# Altium integrated library Capacitor - Aluminium TH.IntLib: 4591 symbols (part 63 of 68)
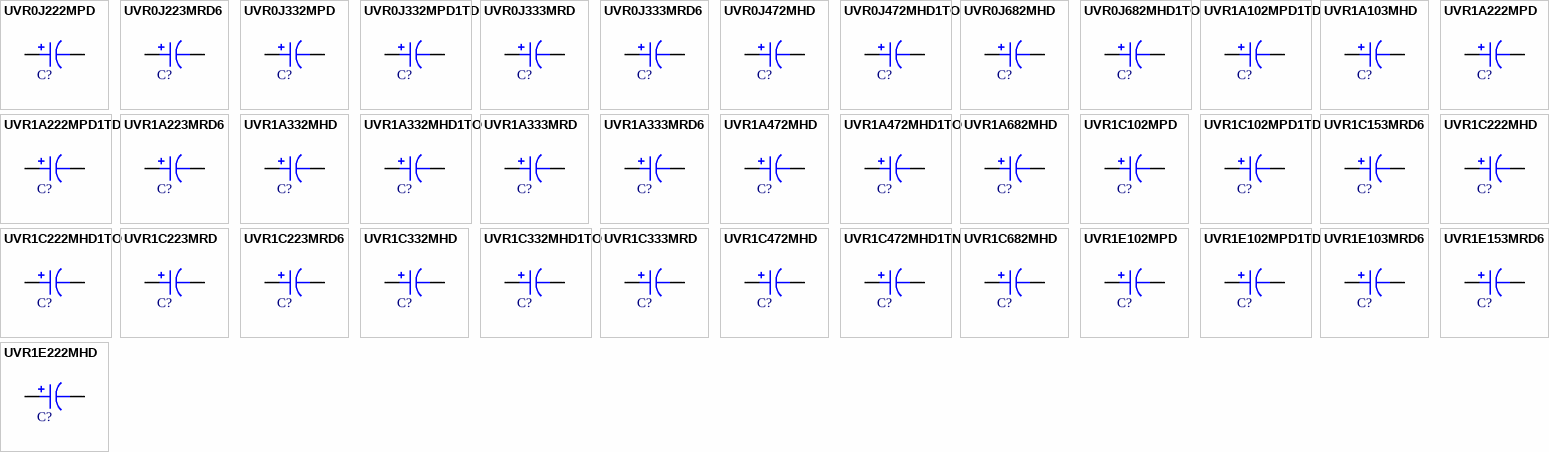
[diagram p176: symbols UVR0J222MPD to UVR1E222MHD]

## UVR0J223MRD6
designator C?, comment 22000uF  (value not drawn)
CAP ALUM 22000UF 20% 6.3V RADIAL; Part Number: UVR0J223MRD6; Manufacturer: Nichicon; TemperatureRange: -40C ~ 85C; Type: Polar; Ripple Current: 3.2A; Value: 22000uF; PartId: 27573; Supplier 1: Digi-Key; Supplier Part Number 1: 493-1015-ND; ComponentLink1Description: Datasheet; ComponentLink1URL: http://nichicon-us.com/english/products/pdfs/e-uvr.pdf; ComponentLink2Description: Digi-Key Listing; ComponentLink2URL: https://www.digikey.com/product-detail/en/nichicon/UVR0J223MRD6/493-1015-ND/588756; Tolerance: 20%; Voltage: 6.3V; Price: 2.33; Device Package: Radial, Can, 22mm
footprint CAP AL TH D22 L10 H33
pins: 1, 2

## UVR0J332MPD
designator C?, comment 3300uF  (value not drawn)
CAP ALUM 3300UF 20% 6.3V RADIAL; Part Number: UVR0J332MPD; Manufacturer: Nichicon; TemperatureRange: -40C ~ 85C; Type: Polar; Ripple Current: 1.19A; Value: 3300uF; PartId: 25840; Supplier 1: Digi-Key; Supplier Part Number 1: 493-1009-ND; ComponentLink1Description: Datasheet; ComponentLink1URL: http://nichicon-us.com/english/products/pdfs/e-uvr.pdf; ComponentLink2Description: Digi-Key Listing; ComponentLink2URL: https://www.digikey.com/product-detail/en/nichicon/UVR0J332MPD/493-1009-ND/588750; Tolerance: 20%; Voltage: 6.3V; Price: 0.49; Device Package: Radial, Can, 10mm
footprint CAP AL TH D10 L5 H22
pins: 1, 2

## UVR0J332MPD1TD
designator C?, comment 3300uF  (value not drawn)
CAP ALUM 3300UF 20% 6.3V RADIAL; Part Number: UVR0J332MPD1TD; Manufacturer: Nichicon; TemperatureRange: -40C ~ 85C; Type: Polar; Ripple Current: 1.19A; Value: 3300uF; PartId: 25729; Supplier 1: Digi-Key; Supplier Part Number 1: 493-12746-3-ND; ComponentLink1Description: Datasheet; ComponentLink1URL: http://nichicon-us.com/english/products/pdfs/e-uvr.pdf; ComponentLink2Description: Digi-Key Listing; ComponentLink2URL: https://www.digikey.com/product-detail/en/nichicon/UVR0J332MPD1TD/493-12746-3-ND/4328947; Tolerance: 20%; Voltage: 6.3V; Price: 0.1698; Device Package: Radial, Can, 10mm
footprint CAP AL TH D10 L5 H22
pins: 1, 2

## UVR0J333MRD
designator C?, comment 33000uF  (value not drawn)
CAP ALUM 33000UF 20% 6.3V RADIAL; Part Number: UVR0J333MRD; Manufacturer: Nichicon; TemperatureRange: -40C ~ 85C; Type: Polar; Ripple Current: 3.9A; Value: 33000uF; PartId: 27664; Supplier 1: Digi-Key; Supplier Part Number 1: 493-1016-ND; ComponentLink1Description: Datasheet; ComponentLink1URL: http://nichicon-us.com/english/products/pdfs/e-uvr.pdf; ComponentLink2Description: Digi-Key Listing; ComponentLink2URL: https://www.digikey.com/product-detail/en/nichicon/UVR0J333MRD/493-1016-ND/588757; Tolerance: 20%; Voltage: 6.3V; Price: 3.36; Device Package: Radial, Can, 22mm
footprint CAP AL TH D22 L10 H53
pins: 1, 2

## UVR0J333MRD6
designator C?, comment 33000uF  (value not drawn)
CAP ALUM 33000UF 20% 6.3V RADIAL; Part Number: UVR0J333MRD6; Manufacturer: Nichicon; TemperatureRange: -40C ~ 85C; Type: Polar; Ripple Current: 3.8A; Value: 33000uF; PartId: 27495; Supplier 1: Digi-Key; Supplier Part Number 1: 493-1017-ND; ComponentLink1Description: Datasheet; ComponentLink1URL: http://nichicon-us.com/english/products/pdfs/e-uvr.pdf; ComponentLink2Description: Digi-Key Listing; ComponentLink2URL: https://www.digikey.com/product-detail/en/nichicon/UVR0J333MRD6/493-1017-ND/588758; Tolerance: 20%; Voltage: 6.3V; Price: 3.1; Device Package: Radial, Can, 25mm
footprint CAP AL TH D25 L12.5 H42
pins: 1, 2

## UVR0J472MHD
designator C?, comment 4700uF  (value not drawn)
CAP ALUM 4700UF 20% 6.3V RADIAL; Part Number: UVR0J472MHD; Manufacturer: Nichicon; TemperatureRange: -40C ~ 85C; Type: Polar; Ripple Current: 1.55A; Value: 4700uF; PartId: 23217; Supplier 1: Digi-Key; Supplier Part Number 1: 493-1010-ND; ComponentLink1Description: Datasheet; ComponentLink1URL: http://nichicon-us.com/english/products/pdfs/e-uvr.pdf; ComponentLink2Description: Digi-Key Listing; ComponentLink2URL: https://www.digikey.com/product-detail/en/nichicon/UVR0J472MHD/493-1010-ND/588751; Tolerance: 20%; Voltage: 6.3V; Price: 0.64; Device Package: Radial, Can, 12.5mm
footprint CAP AL TH D12.5 L5 H22
pins: 1, 2

## UVR0J472MHD1TO
designator C?, comment 4700uF  (value not drawn)
CAP ALUM 4700UF 20% 6.3V RADIAL; Part Number: UVR0J472MHD1TO; Manufacturer: Nichicon; TemperatureRange: -40C ~ 85C; Type: Polar; Ripple Current: 1.55A; Value: 4700uF; PartId: 23139; Supplier 1: Digi-Key; Supplier Part Number 1: 493-5900-3-ND; ComponentLink1Description: Datasheet; ComponentLink1URL: http://nichicon-us.com/english/products/pdfs/e-uvr.pdf; ComponentLink2Description: Digi-Key Listing; ComponentLink2URL: https://www.digikey.com/product-detail/en/nichicon/UVR0J472MHD1TO/493-5900-3-ND/3438533; Tolerance: 20%; Voltage: 6.3V; Price: 0.2578; Device Package: Radial, Can, 12.5mm
footprint CAP AL TH D12.5 L5 H22
pins: 1, 2

## UVR0J682MHD
designator C?, comment 6800uF  (value not drawn)
CAP ALUM 6800UF 20% 6.3V RADIAL; Part Number: UVR0J682MHD; Manufacturer: Nichicon; TemperatureRange: -40C ~ 85C; Type: Polar; Ripple Current: 1.92A; Value: 6800uF; PartId: 23963; Supplier 1: Digi-Key; Supplier Part Number 1: 493-1011-ND; ComponentLink1Description: Datasheet; ComponentLink1URL: http://nichicon-us.com/english/products/pdfs/e-uvr.pdf; ComponentLink2Description: Digi-Key Listing; ComponentLink2URL: https://www.digikey.com/product-detail/en/nichicon/UVR0J682MHD/493-1011-ND/588752; Tolerance: 20%; Voltage: 6.3V; Price: 0.99; Device Package: Radial, Can, 12.5mm
footprint CAP AL TH D12.5 L5 H27
pins: 1, 2

## UVR0J682MHD1TO
designator C?, comment 6800uF  (value not drawn)
CAP ALUM 6800UF 20% 6.3V RADIAL; Part Number: UVR0J682MHD1TO; Manufacturer: Nichicon; TemperatureRange: -40C ~ 85C; Type: Polar; Ripple Current: 1.92A; Value: 6800uF; PartId: 24036; Supplier 1: Digi-Key; Supplier Part Number 1: 493-12749-1-ND; ComponentLink1Description: Datasheet; ComponentLink1URL: http://nichicon-us.com/english/products/pdfs/e-uvr.pdf; ComponentLink2Description: Digi-Key Listing; ComponentLink2URL: https://www.digikey.com/product-detail/en/nichicon/UVR0J682MHD1TO/493-12749-1-ND/4328388; Tolerance: 20%; Voltage: 6.3V; Price: 1.11; Device Package: Radial, Can, 12.5mm
footprint CAP AL TH D12.5 L5 H27
pins: 1, 2

## UVR1A102MPD1TD
designator C?, comment 1000uF  (value not drawn)
CAP ALUM 1000UF 20% 10V RADIAL; Part Number: UVR1A102MPD1TD; Manufacturer: Nichicon; TemperatureRange: -40C ~ 85C; Type: Polar; Ripple Current: 650mA; Value: 1000uF; PartId: 24515; Supplier 1: Digi-Key; Supplier Part Number 1: 493-5903-3-ND; ComponentLink1Description: Datasheet; ComponentLink1URL: http://nichicon-us.com/english/products/pdfs/e-uvr.pdf; ComponentLink2Description: Digi-Key Listing; ComponentLink2URL: https://www.digikey.com/product-detail/en/nichicon/UVR1A102MPD1TD/493-5903-3-ND/3438536; Tolerance: 20%; Voltage: 10V; Price: 0.1293; Device Package: Radial, Can, 10mm
footprint CAP AL TH D10 L5 H14.5
pins: 1, 2

## UVR1A103MHD
designator C?, comment 10000uF  (value not drawn)
CAP ALUM 10000UF 20% 10V RADIAL; Part Number: UVR1A103MHD; Manufacturer: Nichicon; TemperatureRange: -40C ~ 85C; Type: Polar; Ripple Current: 2.7A; Value: 10000uF; PartId: 27351; Supplier 1: Digi-Key; Supplier Part Number 1: 493-1030-ND; ComponentLink1Description: Datasheet; ComponentLink1URL: http://nichicon-us.com/english/products/pdfs/e-uvr.pdf; ComponentLink2Description: Digi-Key Listing; ComponentLink2URL: https://www.digikey.com/product-detail/en/nichicon/UVR1A103MHD/493-1030-ND/588771; Tolerance: 20%; Voltage: 10V; Price: 1.72; Device Package: Radial, Can, 16mm
footprint CAP AL TH D16 L7.5 H37
pins: 1, 2

## UVR1A222MPD
designator C?, comment 2200uF  (value not drawn)
CAP ALUM 2200UF 20% 10V RADIAL; Part Number: UVR1A222MPD; Manufacturer: Nichicon; TemperatureRange: -40C ~ 85C; Type: Polar; Ripple Current: 1.1A; Value: 2200uF; PartId: 25853; Supplier 1: Digi-Key; Supplier Part Number 1: 493-1026-ND; ComponentLink1Description: Datasheet; ComponentLink1URL: http://nichicon-us.com/english/products/pdfs/e-uvr.pdf; ComponentLink2Description: Digi-Key Listing; ComponentLink2URL: https://www.digikey.com/product-detail/en/nichicon/UVR1A222MPD/493-1026-ND/588767; Tolerance: 20%; Voltage: 10V; Price: 0.56; Device Package: Radial, Can, 10mm
footprint CAP AL TH D10 L5 H22
pins: 1, 2

## UVR1A222MPD1TD
designator C?, comment 2200uF  (value not drawn)
CAP ALUM 2200UF 20% 10V RADIAL; Part Number: UVR1A222MPD1TD; Manufacturer: Nichicon; TemperatureRange: -40C ~ 85C; Type: Polar; Ripple Current: 1.1A; Value: 2200uF; PartId: 25739; Supplier 1: Digi-Key; Supplier Part Number 1: 493-12754-3-ND; ComponentLink1Description: Datasheet; ComponentLink1URL: http://nichicon-us.com/english/products/pdfs/e-uvr.pdf; ComponentLink2Description: Digi-Key Listing; ComponentLink2URL: https://www.digikey.com/product-detail/en/nichicon/UVR1A222MPD1TD/493-12754-3-ND/4328955; Tolerance: 20%; Voltage: 10V; Price: 0.1922; Device Package: Radial, Can, 10mm
footprint CAP AL TH D10 L5 H22
pins: 1, 2

## UVR1A223MRD6
designator C?, comment 22000uF  (value not drawn)
CAP ALUM 22000UF 20% 10V RADIAL; Part Number: UVR1A223MRD6; Manufacturer: Nichicon; TemperatureRange: -40C ~ 85C; Type: Polar; Ripple Current: 3.3A; Value: 22000uF; PartId: 27477; Supplier 1: Digi-Key; Supplier Part Number 1: 493-1033-ND; ComponentLink1Description: Datasheet; ComponentLink1URL: http://nichicon-us.com/english/products/pdfs/e-uvr.pdf; ComponentLink2Description: Digi-Key Listing; ComponentLink2URL: https://www.digikey.com/product-detail/en/nichicon/UVR1A223MRD6/493-1033-ND/588774; Tolerance: 20%; Voltage: 10V; Price: 3.12; Device Package: Radial, Can, 25mm
footprint CAP AL TH D25 L12.5 H32
pins: 1, 2

## UVR1A332MHD
designator C?, comment 3300uF  (value not drawn)
CAP ALUM 3300UF 20% 10V RADIAL; Part Number: UVR1A332MHD; Manufacturer: Nichicon; TemperatureRange: -40C ~ 85C; Type: Polar; Ripple Current: 1.45A; Value: 3300uF; PartId: 23225; Supplier 1: Digi-Key; Supplier Part Number 1: 493-1027-ND; ComponentLink1Description: Datasheet; ComponentLink1URL: http://nichicon-us.com/english/products/pdfs/e-uvr.pdf; ComponentLink2Description: Digi-Key Listing; ComponentLink2URL: https://www.digikey.com/product-detail/en/nichicon/UVR1A332MHD/493-1027-ND/588768; Tolerance: 20%; Voltage: 10V; Price: 0.65; Device Package: Radial, Can, 12.5mm
footprint CAP AL TH D12.5 L5 H22
pins: 1, 2

## UVR1A332MHD1TO
designator C?, comment 3300uF  (value not drawn)
CAP ALUM 3300UF 20% 10V RADIAL; Part Number: UVR1A332MHD1TO; Manufacturer: Nichicon; TemperatureRange: -40C ~ 85C; Type: Polar; Ripple Current: 1.45A; Value: 3300uF; PartId: 23261; Supplier 1: Digi-Key; Supplier Part Number 1: 493-12757-1-ND; ComponentLink1Description: Datasheet; ComponentLink1URL: http://nichicon-us.com/english/products/pdfs/e-uvr.pdf; ComponentLink2Description: Digi-Key Listing; ComponentLink2URL: https://www.digikey.com/product-detail/en/nichicon/UVR1A332MHD1TO/493-12757-1-ND/4328406; Tolerance: 20%; Voltage: 10V; Price: 0.73; Device Package: Radial, Can, 12.5mm
footprint CAP AL TH D12.5 L5 H22
pins: 1, 2

## UVR1A333MRD
designator C?, comment 33000uF  (value not drawn)
CAP ALUM 33000UF 20% 10V RADIAL; Part Number: UVR1A333MRD; Manufacturer: Nichicon; TemperatureRange: -40C ~ 85C; Type: Polar; Ripple Current: 4.5A; Value: 33000uF; PartId: 27646; Supplier 1: Digi-Key; Supplier Part Number 1: 493-1034-ND; ComponentLink1Description: Datasheet; ComponentLink1URL: http://nichicon-us.com/english/products/pdfs/e-uvr.pdf; ComponentLink2Description: Digi-Key Listing; ComponentLink2URL: https://www.digikey.com/product-detail/en/nichicon/UVR1A333MRD/493-1034-ND/588775; Tolerance: 20%; Voltage: 10V; Price: 4.19; Device Package: Radial, Can, 22mm
footprint CAP AL TH D22 L10 H53
pins: 1, 2

## UVR1A333MRD6
designator C?, comment 33000uF  (value not drawn)
CAP ALUM 33000UF 20% 10V RADIAL; Part Number: UVR1A333MRD6; Manufacturer: Nichicon; TemperatureRange: -40C ~ 85C; Type: Polar; Ripple Current: 4.8A; Value: 33000uF; PartId: 27488; Supplier 1: Digi-Key; Supplier Part Number 1: 493-1035-ND; ComponentLink1Description: Datasheet; ComponentLink1URL: http://nichicon-us.com/english/products/pdfs/e-uvr.pdf; ComponentLink2Description: Digi-Key Listing; ComponentLink2URL: https://www.digikey.com/product-detail/en/nichicon/UVR1A333MRD6/493-1035-ND/588776; Tolerance: 20%; Voltage: 10V; Price: 4.19; Device Package: Radial, Can, 25mm
footprint CAP AL TH D25 L12.5 H42
pins: 1, 2

## UVR1A472MHD
designator C?, comment 4700uF  (value not drawn)
CAP ALUM 4700UF 20% 10V RADIAL; Part Number: UVR1A472MHD; Manufacturer: Nichicon; TemperatureRange: -40C ~ 85C; Type: Polar; Ripple Current: 1.8A; Value: 4700uF; PartId: 23954; Supplier 1: Digi-Key; Supplier Part Number 1: 493-1028-ND; ComponentLink1Description: Datasheet; ComponentLink1URL: http://nichicon-us.com/english/products/pdfs/e-uvr.pdf; ComponentLink2Description: Digi-Key Listing; ComponentLink2URL: https://www.digikey.com/product-detail/en/nichicon/UVR1A472MHD/493-1028-ND/588769; Tolerance: 20%; Voltage: 10V; Price: 0.98; Device Package: Radial, Can, 12.5mm
footprint CAP AL TH D12.5 L5 H27
pins: 1, 2

## UVR1A472MHD1TO
designator C?, comment 4700uF  (value not drawn)
CAP ALUM 4700UF 20% 10V RADIAL; Part Number: UVR1A472MHD1TO; Manufacturer: Nichicon; TemperatureRange: -40C ~ 85C; Type: Polar; Ripple Current: 1.8A; Value: 4700uF; PartId: 23949; Supplier 1: Digi-Key; Supplier Part Number 1: 493-12761-1-ND; ComponentLink1Description: Datasheet; ComponentLink1URL: http://nichicon-us.com/english/products/pdfs/e-uvr.pdf; ComponentLink2Description: Digi-Key Listing; ComponentLink2URL: https://www.digikey.com/product-detail/en/nichicon/UVR1A472MHD1TO/493-12761-1-ND/4328397; Tolerance: 20%; Voltage: 10V; Price: 0.97; Device Package: Radial, Can, 12.5mm
footprint CAP AL TH D12.5 L5 H27
pins: 1, 2

## UVR1A682MHD
designator C?, comment 6800uF  (value not drawn)
CAP ALUM 6800UF 20% 10V RADIAL; Part Number: UVR1A682MHD; Manufacturer: Nichicon; TemperatureRange: -40C ~ 85C; Type: Polar; Ripple Current: 2.25A; Value: 6800uF; PartId: 26815; Supplier 1: Digi-Key; Supplier Part Number 1: 493-1029-ND; ComponentLink1Description: Datasheet; ComponentLink1URL: http://nichicon-us.com/english/products/pdfs/e-uvr.pdf; ComponentLink2Description: Digi-Key Listing; ComponentLink2URL: https://www.digikey.com/product-detail/en/nichicon/UVR1A682MHD/493-1029-ND/588770; Tolerance: 20%; Voltage: 10V; Price: 0.96; Device Package: Radial, Can, 16mm
footprint CAP AL TH D16 L7.5 H27
pins: 1, 2

## UVR1C102MPD
designator C?, comment 1000uF  (value not drawn)
CAP ALUM 1000UF 20% 16V RADIAL; Part Number: UVR1C102MPD; Manufacturer: Nichicon; TemperatureRange: -40C ~ 85C; Type: Polar; Ripple Current: 790mA; Value: 1000uF; PartId: 25187; Supplier 1: Digi-Key; Supplier Part Number 1: 493-1044-ND; ComponentLink1Description: Datasheet; ComponentLink1URL: http://nichicon-us.com/english/products/pdfs/e-uvr.pdf; ComponentLink2Description: Digi-Key Listing; ComponentLink2URL: https://www.digikey.com/product-detail/en/nichicon/UVR1C102MPD/493-1044-ND/588785; Tolerance: 20%; Voltage: 16V; Price: 0.48; Device Package: Radial, Can, 10mm
footprint CAP AL TH D10 L5 H17.5
pins: 1, 2

## UVR1C102MPD1TD
designator C?, comment 1000uF  (value not drawn)
CAP ALUM 1000UF 20% 16V RADIAL; Part Number: UVR1C102MPD1TD; Manufacturer: Nichicon; TemperatureRange: -40C ~ 85C; Type: Polar; Ripple Current: 790mA; Value: 1000uF; PartId: 25005; Supplier 1: Digi-Key; Supplier Part Number 1: 493-5907-3-ND; ComponentLink1Description: Datasheet; ComponentLink1URL: http://nichicon-us.com/english/products/pdfs/e-uvr.pdf; ComponentLink2Description: Digi-Key Listing; ComponentLink2URL: https://www.digikey.com/product-detail/en/nichicon/UVR1C102MPD1TD/493-5907-3-ND/3438540; Tolerance: 20%; Voltage: 16V; Price: 0.1509; Device Package: Radial, Can, 10mm
footprint CAP AL TH D10 L5 H17.5
pins: 1, 2

## UVR1C153MRD6
designator C?, comment 15000uF  (value not drawn)
CAP ALUM 15000UF 20% 16V RADIAL; Part Number: UVR1C153MRD6; Manufacturer: Nichicon; TemperatureRange: -40C ~ 85C; Type: Polar; Ripple Current: 3.3A; Value: 15000uF; PartId: 27479; Supplier 1: Digi-Key; Supplier Part Number 1: 493-1052-ND; ComponentLink1Description: Datasheet; ComponentLink1URL: http://nichicon-us.com/english/products/pdfs/e-uvr.pdf; ComponentLink2Description: Digi-Key Listing; ComponentLink2URL: https://www.digikey.com/product-detail/en/nichicon/UVR1C153MRD6/493-1052-ND/588793; Tolerance: 20%; Voltage: 16V; Price: 3.37; Device Package: Radial, Can, 25mm
footprint CAP AL TH D25 L12.5 H32
pins: 1, 2

## UVR1C222MHD
designator C?, comment 2200uF  (value not drawn)
CAP ALUM 2200UF 20% 16V RADIAL; Part Number: UVR1C222MHD; Manufacturer: Nichicon; TemperatureRange: -40C ~ 85C; Type: Polar; Ripple Current: 1.3A; Value: 2200uF; PartId: 23235; Supplier 1: Digi-Key; Supplier Part Number 1: 493-1045-ND; ComponentLink1Description: Datasheet; ComponentLink1URL: http://nichicon-us.com/english/products/pdfs/e-uvr.pdf; ComponentLink2Description: Digi-Key Listing; ComponentLink2URL: https://www.digikey.com/product-detail/en/nichicon/UVR1C222MHD/493-1045-ND/588786; Tolerance: 20%; Voltage: 16V; Price: 0.68; Device Package: Radial, Can, 12.5mm
footprint CAP AL TH D12.5 L5 H22
pins: 1, 2

## UVR1C222MHD1TO
designator C?, comment 2200uF  (value not drawn)
CAP ALUM 2200UF 20% 16V RADIAL; Part Number: UVR1C222MHD1TO; Manufacturer: Nichicon; TemperatureRange: -40C ~ 85C; Type: Polar; Ripple Current: 1.3A; Value: 2200uF; PartId: 23127; Supplier 1: Digi-Key; Supplier Part Number 1: 493-5909-3-ND; ComponentLink1Description: Datasheet; ComponentLink1URL: http://nichicon-us.com/english/products/pdfs/e-uvr.pdf; ComponentLink2Description: Digi-Key Listing; ComponentLink2URL: https://www.digikey.com/product-detail/en/nichicon/UVR1C222MHD1TO/493-5909-3-ND/3438542; Tolerance: 20%; Voltage: 16V; Price: 0.2362; Device Package: Radial, Can, 12.5mm
footprint CAP AL TH D12.5 L5 H22
pins: 1, 2

## UVR1C223MRD
designator C?, comment 22000uF  (value not drawn)
CAP ALUM 22000UF 20% 16V RADIAL; Part Number: UVR1C223MRD; Manufacturer: Nichicon; TemperatureRange: -40C ~ 85C; Type: Polar; Ripple Current: 4.2A; Value: 22000uF; PartId: 27618; Supplier 1: Digi-Key; Supplier Part Number 1: 493-1053-ND; ComponentLink1Description: Datasheet; ComponentLink1URL: http://nichicon-us.com/english/products/pdfs/e-uvr.pdf; ComponentLink2Description: Digi-Key Listing; ComponentLink2URL: https://www.digikey.com/product-detail/en/nichicon/UVR1C223MRD/493-1053-ND/588794; Tolerance: 20%; Voltage: 16V; Price: 3.51; Device Package: Radial, Can, 22mm
footprint CAP AL TH D22 L10 H53
pins: 1, 2

## UVR1C223MRD6
designator C?, comment 22000uF  (value not drawn)
CAP ALUM 22000UF 20% 16V RADIAL; Part Number: UVR1C223MRD6; Manufacturer: Nichicon; TemperatureRange: -40C ~ 85C; Type: Polar; Ripple Current: 4A; Value: 22000uF; PartId: 27491; Supplier 1: Digi-Key; Supplier Part Number 1: 493-1054-ND; ComponentLink1Description: Datasheet; ComponentLink1URL: http://nichicon-us.com/english/products/pdfs/e-uvr.pdf; ComponentLink2Description: Digi-Key Listing; ComponentLink2URL: https://www.digikey.com/product-detail/en/nichicon/UVR1C223MRD6/493-1054-ND/588795; Tolerance: 20%; Voltage: 16V; Price: 4.22; Device Package: Radial, Can, 25mm
footprint CAP AL TH D25 L12.5 H42
pins: 1, 2

## UVR1C332MHD
designator C?, comment 3300uF  (value not drawn)
CAP ALUM 3300UF 20% 16V RADIAL; Part Number: UVR1C332MHD; Manufacturer: Nichicon; TemperatureRange: -40C ~ 85C; Type: Polar; Ripple Current: 1.7A; Value: 3300uF; PartId: 24039; Supplier 1: Digi-Key; Supplier Part Number 1: 493-1046-ND; ComponentLink1Description: Datasheet; ComponentLink1URL: http://nichicon-us.com/english/products/pdfs/e-uvr.pdf; ComponentLink2Description: Digi-Key Listing; ComponentLink2URL: https://www.digikey.com/product-detail/en/nichicon/UVR1C332MHD/493-1046-ND/588787; Tolerance: 20%; Voltage: 16V; Price: 1.12; Device Package: Radial, Can, 12.5mm
footprint CAP AL TH D12.5 L5 H27
pins: 1, 2

## UVR1C332MHD1TO
designator C?, comment 3300uF  (value not drawn)
CAP ALUM 3300UF 20% 16V RADIAL; Part Number: UVR1C332MHD1TO; Manufacturer: Nichicon; TemperatureRange: -40C ~ 85C; Type: Polar; Ripple Current: 1.7A; Value: 3300uF; PartId: 23840; Supplier 1: Digi-Key; Supplier Part Number 1: 493-12769-3-ND; ComponentLink1Description: Datasheet; ComponentLink1URL: http://nichicon-us.com/english/products/pdfs/e-uvr.pdf; ComponentLink2Description: Digi-Key Listing; ComponentLink2URL: https://www.digikey.com/product-detail/en/nichicon/UVR1C332MHD1TO/493-12769-3-ND/4328969; Tolerance: 20%; Voltage: 16V; Price: 0.5027; Device Package: Radial, Can, 12.5mm
footprint CAP AL TH D12.5 L5 H27
pins: 1, 2

## UVR1C333MRD
designator C?, comment 33000uF  (value not drawn)
CAP ALUM 33000UF 20% 16V RADIAL; Part Number: UVR1C333MRD; Manufacturer: Nichicon; TemperatureRange: -40C ~ 85C; Type: Polar; Ripple Current: 4.8A; Value: 33000uF; PartId: 27541; Supplier 1: Digi-Key; Supplier Part Number 1: 493-1055-ND; ComponentLink1Description: Datasheet; ComponentLink1URL: http://nichicon-us.com/english/products/pdfs/e-uvr.pdf; ComponentLink2Description: Digi-Key Listing; ComponentLink2URL: https://www.digikey.com/product-detail/en/nichicon/UVR1C333MRD/493-1055-ND/588796; Tolerance: 20%; Voltage: 16V; Price: 3.84; Device Package: Radial, Can, 25mm
footprint CAP AL TH D25 L12.5 H52
pins: 1, 2

## UVR1C472MHD
designator C?, comment 4700uF  (value not drawn)
CAP ALUM 4700UF 20% 16V RADIAL; Part Number: UVR1C472MHD; Manufacturer: Nichicon; TemperatureRange: -40C ~ 85C; Type: Polar; Ripple Current: 2.1A; Value: 4700uF; PartId: 26846; Supplier 1: Digi-Key; Supplier Part Number 1: 493-1047-ND; ComponentLink1Description: Datasheet; ComponentLink1URL: http://nichicon-us.com/english/products/pdfs/e-uvr.pdf; ComponentLink2Description: Digi-Key Listing; ComponentLink2URL: https://www.digikey.com/product-detail/en/nichicon/UVR1C472MHD/493-1047-ND/588788; Tolerance: 20%; Voltage: 16V; Price: 1.04; Device Package: Radial, Can, 16mm
footprint CAP AL TH D16 L7.5 H27
pins: 1, 2

## UVR1C472MHD1TN
designator C?, comment 4700uF  (value not drawn)
CAP ALUM 4700UF 20% 16V RADIAL; Part Number: UVR1C472MHD1TN; Manufacturer: Nichicon; TemperatureRange: -40C ~ 85C; Type: Polar; Ripple Current: 2.1A; Value: 4700uF; PartId: 26745; Supplier 1: Digi-Key; Supplier Part Number 1: 493-12771-3-ND; ComponentLink1Description: Datasheet; ComponentLink1URL: http://nichicon-us.com/english/products/pdfs/e-uvr.pdf; ComponentLink2Description: Digi-Key Listing; ComponentLink2URL: https://www.digikey.com/product-detail/en/nichicon/UVR1C472MHD1TN/493-12771-3-ND/4328971; Tolerance: 20%; Voltage: 16V; Price: 0.51; Device Package: Radial, Can, 16mm
footprint CAP AL TH D16 L7.5 H27
pins: 1, 2

## UVR1C682MHD
designator C?, comment 6800uF  (value not drawn)
CAP ALUM 6800UF 20% 16V RADIAL; Part Number: UVR1C682MHD; Manufacturer: Nichicon; TemperatureRange: -40C ~ 85C; Type: Polar; Ripple Current: 2.65A; Value: 6800uF; PartId: 27314; Supplier 1: Digi-Key; Supplier Part Number 1: 493-1048-ND; ComponentLink1Description: Datasheet; ComponentLink1URL: http://nichicon-us.com/english/products/pdfs/e-uvr.pdf; ComponentLink2Description: Digi-Key Listing; ComponentLink2URL: https://www.digikey.com/product-detail/en/nichicon/UVR1C682MHD/493-1048-ND/588789; Tolerance: 20%; Voltage: 16V; Price: 1.41; Device Package: Radial, Can, 16mm
footprint CAP AL TH D16 L7.5 H37
pins: 1, 2

## UVR1E102MPD
designator C?, comment 1000uF  (value not drawn)
CAP ALUM 1000UF 20% 25V RADIAL; Part Number: UVR1E102MPD; Manufacturer: Nichicon; TemperatureRange: -40C ~ 85C; Type: Polar; Ripple Current: 960mA; Value: 1000uF; PartId: 25836; Supplier 1: Digi-Key; Supplier Part Number 1: 493-1065-ND; ComponentLink1Description: Datasheet; ComponentLink1URL: http://nichicon-us.com/english/products/pdfs/e-uvr.pdf; ComponentLink2Description: Digi-Key Listing; ComponentLink2URL: https://www.digikey.com/product-detail/en/nichicon/UVR1E102MPD/493-1065-ND/588806; Tolerance: 20%; Voltage: 25V; Price: 0.44; Device Package: Radial, Can, 10mm
footprint CAP AL TH D10 L5 H22
pins: 1, 2

## UVR1E102MPD1TD
designator C?, comment 1000uF  (value not drawn)
CAP ALUM 1000UF 20% 25V RADIAL; Part Number: UVR1E102MPD1TD; Manufacturer: Nichicon; TemperatureRange: -40C ~ 85C; Type: Polar; Ripple Current: 960mA; Value: 1000uF; PartId: 25727; Supplier 1: Digi-Key; Supplier Part Number 1: 493-5913-3-ND; ComponentLink1Description: Datasheet; ComponentLink1URL: http://nichicon-us.com/english/products/pdfs/e-uvr.pdf; ComponentLink2Description: Digi-Key Listing; ComponentLink2URL: https://www.digikey.com/product-detail/en/nichicon/UVR1E102MPD1TD/493-5913-3-ND/3438546; Tolerance: 20%; Voltage: 25V; Price: 0.1534; Device Package: Radial, Can, 10mm
footprint CAP AL TH D10 L5 H22
pins: 1, 2

## UVR1E103MRD6
designator C?, comment 10000uF  (value not drawn)
CAP ALUM 10000UF 20% 25V RADIAL; Part Number: UVR1E103MRD6; Manufacturer: Nichicon; TemperatureRange: -40C ~ 85C; Type: Polar; Ripple Current: 2.9A; Value: 10000uF; PartId: 27474; Supplier 1: Digi-Key; Supplier Part Number 1: 493-1072-ND; ComponentLink1Description: Datasheet; ComponentLink1URL: http://nichicon-us.com/english/products/pdfs/e-uvr.pdf; ComponentLink2Description: Digi-Key Listing; ComponentLink2URL: https://www.digikey.com/product-detail/en/nichicon/UVR1E103MRD6/493-1072-ND/588813; Tolerance: 20%; Voltage: 25V; Price: 3.4; Device Package: Radial, Can, 25mm
footprint CAP AL TH D25 L12.5 H32
pins: 1, 2

## UVR1E153MRD6
designator C?, comment 15000uF  (value not drawn)
CAP ALUM 15000UF 20% 25V RADIAL; Part Number: UVR1E153MRD6; Manufacturer: Nichicon; TemperatureRange: -40C ~ 85C; Type: Polar; Ripple Current: 3.6A; Value: 15000uF; PartId: 27487; Supplier 1: Digi-Key; Supplier Part Number 1: 493-1074-ND; ComponentLink1Description: Datasheet; ComponentLink1URL: http://nichicon-us.com/english/products/pdfs/e-uvr.pdf; ComponentLink2Description: Digi-Key Listing; ComponentLink2URL: https://www.digikey.com/product-detail/en/nichicon/UVR1E153MRD6/493-1074-ND/588815; Tolerance: 20%; Voltage: 25V; Price: 3.38; Device Package: Radial, Can, 25mm
footprint CAP AL TH D25 L12.5 H42
pins: 1, 2

## UVR1E222MHD
designator C?, comment 2200uF  (value not drawn)
CAP ALUM 2200UF 20% 25V RADIAL; Part Number: UVR1E222MHD; Manufacturer: Nichicon; TemperatureRange: -40C ~ 85C; Type: Polar; Ripple Current: 1.55A; Value: 2200uF; PartId: 23898; Supplier 1: Digi-Key; Supplier Part Number 1: 493-1066-ND; ComponentLink1Description: Datasheet; ComponentLink1URL: http://nichicon-us.com/english/products/pdfs/e-uvr.pdf; ComponentLink2Description: Digi-Key Listing; ComponentLink2URL: https://www.digikey.com/product-detail/en/nichicon/UVR1E222MHD/493-1066-ND/588807; Tolerance: 20%; Voltage: 25V; Price: 0.89; Device Package: Radial, Can, 12.5mm
footprint CAP AL TH D12.5 L5 H27
pins: 1, 2

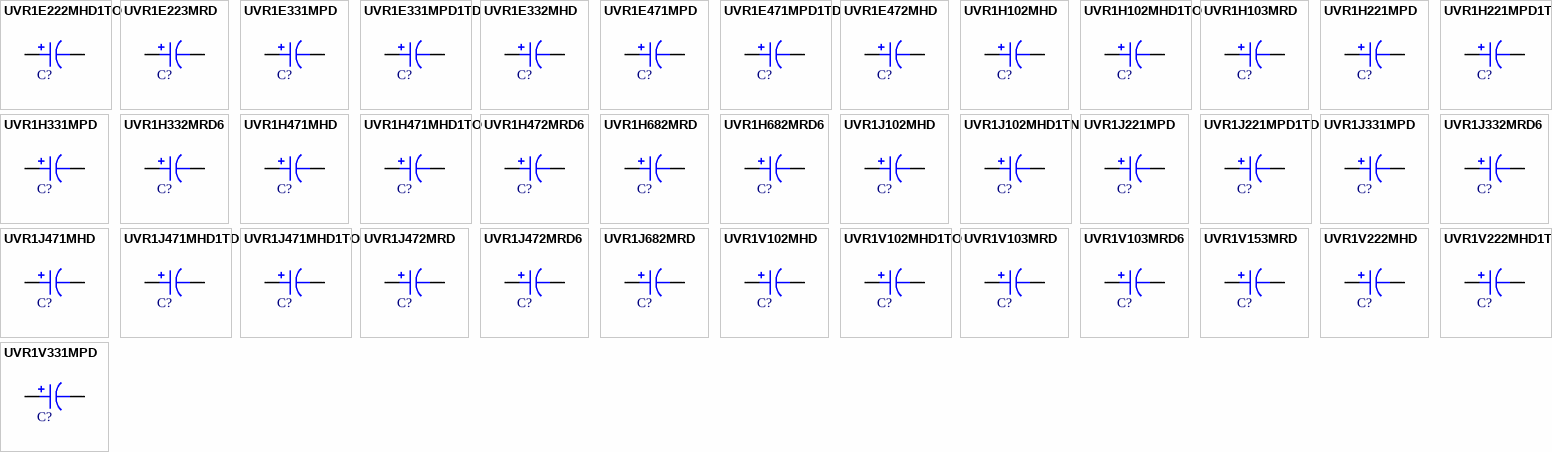
[diagram p106: symbols UVR1E222MHD1TO to UVR1V331MPD]

## UVR1E222MHD1TO
designator C?, comment 2200uF  (value not drawn)
CAP ALUM 2200UF 20% 25V RADIAL; Part Number: UVR1E222MHD1TO; Manufacturer: Nichicon; TemperatureRange: -40C ~ 85C; Type: Polar; Ripple Current: 1.55A; Value: 2200uF; PartId: 23806; Supplier 1: Digi-Key; Supplier Part Number 1: 493-12774-3-ND; ComponentLink1Description: Datasheet; ComponentLink1URL: http://nichicon-us.com/english/products/pdfs/e-uvr.pdf; ComponentLink2Description: Digi-Key Listing; ComponentLink2URL: https://www.digikey.com/product-detail/en/nichicon/UVR1E222MHD1TO/493-12774-3-ND/4328974; Tolerance: 20%; Voltage: 25V; Price: 0.3742; Device Package: Radial, Can, 12.5mm
footprint CAP AL TH D12.5 L5 H27
pins: 1, 2

## UVR1E223MRD
designator C?, comment 22000uF  (value not drawn)
CAP ALUM 22000UF 20% 25V RADIAL; Part Number: UVR1E223MRD; Manufacturer: Nichicon; TemperatureRange: -40C ~ 85C; Type: Polar; Ripple Current: 4.5A; Value: 22000uF; PartId: 27502; Supplier 1: Digi-Key; Supplier Part Number 1: 493-1075-ND; ComponentLink1Description: Datasheet; ComponentLink1URL: http://nichicon-us.com/english/products/pdfs/e-uvr.pdf; ComponentLink2Description: Digi-Key Listing; ComponentLink2URL: https://www.digikey.com/product-detail/en/nichicon/UVR1E223MRD/493-1075-ND/588816; Tolerance: 20%; Voltage: 25V; Price: 3.94; Device Package: Radial, Can, 25mm
footprint CAP AL TH D25 L12.5 H52
pins: 1, 2

## UVR1E331MPD
designator C?, comment 330uF  (value not drawn)
CAP ALUM 330UF 20% 25V RADIAL; Part Number: UVR1E331MPD; Manufacturer: Nichicon; TemperatureRange: -40C ~ 85C; Type: Polar; Ripple Current: 440mA; Value: 330uF; PartId: 24685; Supplier 1: Digi-Key; Supplier Part Number 1: 493-1063-ND; ComponentLink1Description: Datasheet; ComponentLink1URL: http://nichicon-us.com/english/products/pdfs/e-uvr.pdf; ComponentLink2Description: Digi-Key Listing; ComponentLink2URL: https://www.digikey.com/product-detail/en/nichicon/UVR1E331MPD/493-1063-ND/588804; Tolerance: 20%; Voltage: 25V; Price: 0.34; Device Package: Radial, Can, 10mm
footprint CAP AL TH D10 L5 H14.5
pins: 1, 2

## UVR1E331MPD1TD
designator C?, comment 330uF  (value not drawn)
CAP ALUM 330UF 20% 25V RADIAL; Part Number: UVR1E331MPD1TD; Manufacturer: Nichicon; TemperatureRange: -40C ~ 85C; Type: Polar; Ripple Current: 440mA; Value: 330uF; PartId: 24489; Supplier 1: Digi-Key; Supplier Part Number 1: 493-12777-3-ND; ComponentLink1Description: Datasheet; ComponentLink1URL: http://nichicon-us.com/english/products/pdfs/e-uvr.pdf; ComponentLink2Description: Digi-Key Listing; ComponentLink2URL: https://www.digikey.com/product-detail/en/nichicon/UVR1E331MPD1TD/493-12777-3-ND/4328977; Tolerance: 20%; Voltage: 25V; Price: 0.0943; Device Package: Radial, Can, 10mm
footprint CAP AL TH D10 L5 H14.5
pins: 1, 2

## UVR1E332MHD
designator C?, comment 3300uF  (value not drawn)
CAP ALUM 3300UF 20% 25V RADIAL; Part Number: UVR1E332MHD; Manufacturer: Nichicon; TemperatureRange: -40C ~ 85C; Type: Polar; Ripple Current: 1.98A; Value: 3300uF; PartId: 26812; Supplier 1: Digi-Key; Supplier Part Number 1: 493-1067-ND; ComponentLink1Description: Datasheet; ComponentLink1URL: http://nichicon-us.com/english/products/pdfs/e-uvr.pdf; ComponentLink2Description: Digi-Key Listing; ComponentLink2URL: https://www.digikey.com/product-detail/en/nichicon/UVR1E332MHD/493-1067-ND/588808; Tolerance: 20%; Voltage: 25V; Price: 0.95; Device Package: Radial, Can, 16mm
footprint CAP AL TH D16 L7.5 H27
pins: 1, 2

## UVR1E471MPD
designator C?, comment 470uF  (value not drawn)
CAP ALUM 470UF 20% 25V RADIAL; Part Number: UVR1E471MPD; Manufacturer: Nichicon; TemperatureRange: -40C ~ 85C; Type: Polar; Ripple Current: 550mA; Value: 470uF; PartId: 24675; Supplier 1: Digi-Key; Supplier Part Number 1: 493-1064-ND; ComponentLink1Description: Datasheet; ComponentLink1URL: http://nichicon-us.com/english/products/pdfs/e-uvr.pdf; ComponentLink2Description: Digi-Key Listing; ComponentLink2URL: https://www.digikey.com/product-detail/en/nichicon/UVR1E471MPD/493-1064-ND/588805; Tolerance: 20%; Voltage: 25V; Price: 0.32; Device Package: Radial, Can, 10mm
footprint CAP AL TH D10 L5 H14.5
pins: 1, 2

## UVR1E471MPD1TD
designator C?, comment 470uF  (value not drawn)
CAP ALUM 470UF 20% 25V RADIAL; Part Number: UVR1E471MPD1TD; Manufacturer: Nichicon; TemperatureRange: -40C ~ 85C; Type: Polar; Ripple Current: 550mA; Value: 470uF; PartId: 24491; Supplier 1: Digi-Key; Supplier Part Number 1: UVR1E471MPD1TD-ND; ComponentLink1Description: Datasheet; ComponentLink1URL: http://nichicon-us.com/english/products/pdfs/e-uvr.pdf; ComponentLink2Description: Digi-Key Listing; ComponentLink2URL: https://www.digikey.com/product-detail/en/nichicon/UVR1E471MPD1TD/UVR1E471MPD1TD-ND/2428029; Tolerance: 20%; Voltage: 25V; Price: 0.101; Device Package: Radial, Can, 10mm
footprint CAP AL TH D10 L5 H14.5
pins: 1, 2

## UVR1E472MHD
designator C?, comment 4700uF  (value not drawn)
CAP ALUM 4700UF 20% 25V RADIAL; Part Number: UVR1E472MHD; Manufacturer: Nichicon; TemperatureRange: -40C ~ 85C; Type: Polar; Ripple Current: 2.45A; Value: 4700uF; PartId: 27017; Supplier 1: Digi-Key; Supplier Part Number 1: 493-1068-ND; ComponentLink1Description: Datasheet; ComponentLink1URL: http://nichicon-us.com/english/products/pdfs/e-uvr.pdf; ComponentLink2Description: Digi-Key Listing; ComponentLink2URL: https://www.digikey.com/product-detail/en/nichicon/UVR1E472MHD/493-1068-ND/588809; Tolerance: 20%; Voltage: 25V; Price: 1.43; Device Package: Radial, Can, 16mm
footprint CAP AL TH D16 L7.5 H33.5
pins: 1, 2

## UVR1H102MHD
designator C?, comment 1000uF  (value not drawn)
CAP ALUM 1000UF 20% 50V RADIAL; Part Number: UVR1H102MHD; Manufacturer: Nichicon; TemperatureRange: -40C ~ 85C; Type: Polar; Ripple Current: 1.35A; Value: 1000uF; PartId: 23865; Supplier 1: Digi-Key; Supplier Part Number 1: 493-1111-ND; ComponentLink1Description: Datasheet; ComponentLink1URL: http://nichicon-us.com/english/products/pdfs/e-uvr.pdf; ComponentLink2Description: Digi-Key Listing; ComponentLink2URL: https://www.digikey.com/product-detail/en/nichicon/UVR1H102MHD/493-1111-ND/588852; Tolerance: 20%; Voltage: 50V; Price: 0.78; Device Package: Radial, Can, 12.5mm
footprint CAP AL TH D12.5 L5 H27
pins: 1, 2

## UVR1H102MHD1TO
designator C?, comment 1000uF  (value not drawn)
CAP ALUM 1000UF 20% 50V RADIAL; Part Number: UVR1H102MHD1TO; Manufacturer: Nichicon; TemperatureRange: -40C ~ 85C; Type: Polar; Ripple Current: 1.35A; Value: 1000uF; PartId: 23793; Supplier 1: Digi-Key; Supplier Part Number 1: 493-12786-3-ND; ComponentLink1Description: Datasheet; ComponentLink1URL: http://nichicon-us.com/english/products/pdfs/e-uvr.pdf; ComponentLink2Description: Digi-Key Listing; ComponentLink2URL: https://www.digikey.com/product-detail/en/nichicon/UVR1H102MHD1TO/493-12786-3-ND/4328986; Tolerance: 20%; Voltage: 50V; Price: 0.3276; Device Package: Radial, Can, 12.5mm
footprint CAP AL TH D12.5 L5 H27
pins: 1, 2

## UVR1H103MRD
designator C?, comment 10000uF  (value not drawn)
CAP ALUM 10000UF 20% 50V RADIAL; Part Number: UVR1H103MRD; Manufacturer: Nichicon; TemperatureRange: -40C ~ 85C; Type: Polar; Ripple Current: 4A; Value: 10000uF; PartId: 27501; Supplier 1: Digi-Key; Supplier Part Number 1: 493-1119-ND; ComponentLink1Description: Datasheet; ComponentLink1URL: http://nichicon-us.com/english/products/pdfs/e-uvr.pdf; ComponentLink2Description: Digi-Key Listing; ComponentLink2URL: https://www.digikey.com/product-detail/en/nichicon/UVR1H103MRD/493-1119-ND/588860; Tolerance: 20%; Voltage: 50V; Price: 3.82; Device Package: Radial, Can, 25mm
footprint CAP AL TH D25 L12.5 H52
pins: 1, 2

## UVR1H221MPD
designator C?, comment 220uF  (value not drawn)
CAP ALUM 220UF 20% 50V RADIAL; Part Number: UVR1H221MPD; Manufacturer: Nichicon; TemperatureRange: -40C ~ 85C; Type: Polar; Ripple Current: 430mA; Value: 220uF; PartId: 24904; Supplier 1: Digi-Key; Supplier Part Number 1: 493-1108-ND; ComponentLink1Description: Datasheet; ComponentLink1URL: http://nichicon-us.com/english/products/pdfs/e-uvr.pdf; ComponentLink2Description: Digi-Key Listing; ComponentLink2URL: https://www.digikey.com/product-detail/en/nichicon/UVR1H221MPD/493-1108-ND/588849; Tolerance: 20%; Voltage: 50V; Price: 0.49; Device Package: Radial, Can, 10mm
footprint CAP AL TH D10 L5 H14.5
pins: 1, 2

## UVR1H221MPD1TD
designator C?, comment 220uF  (value not drawn)
CAP ALUM 220UF 20% 50V RADIAL; Part Number: UVR1H221MPD1TD; Manufacturer: Nichicon; TemperatureRange: -40C ~ 85C; Type: Polar; Ripple Current: 430mA; Value: 220uF; PartId: 24787; Supplier 1: Digi-Key; Supplier Part Number 1: 493-5917-1-ND; ComponentLink1Description: Datasheet; ComponentLink1URL: http://nichicon-us.com/english/products/pdfs/e-uvr.pdf; ComponentLink2Description: Digi-Key Listing; ComponentLink2URL: https://www.digikey.com/product-detail/en/nichicon/UVR1H221MPD1TD/493-5917-1-ND/3438482; Tolerance: 20%; Voltage: 50V; Price: 0.44; Device Package: Radial, Can, 10mm
footprint CAP AL TH D10 L5 H14.5
pins: 1, 2

## UVR1H331MPD
designator C?, comment 330uF  (value not drawn)
CAP ALUM 330UF 20% 50V RADIAL; Part Number: UVR1H331MPD; Manufacturer: Nichicon; TemperatureRange: -40C ~ 85C; Type: Polar; Ripple Current: 590mA; Value: 330uF; PartId: 25172; Supplier 1: Digi-Key; Supplier Part Number 1: 493-1109-ND; ComponentLink1Description: Datasheet; ComponentLink1URL: http://nichicon-us.com/english/products/pdfs/e-uvr.pdf; ComponentLink2Description: Digi-Key Listing; ComponentLink2URL: https://www.digikey.com/product-detail/en/nichicon/UVR1H331MPD/493-1109-ND/588850; Tolerance: 20%; Voltage: 50V; Price: 0.45; Device Package: Radial, Can, 10mm
footprint CAP AL TH D10 L5 H17.5
pins: 1, 2

## UVR1H332MRD6
designator C?, comment 3300uF  (value not drawn)
CAP ALUM 3300UF 20% 50V RADIAL; Part Number: UVR1H332MRD6; Manufacturer: Nichicon; TemperatureRange: -40C ~ 85C; Type: Polar; Ripple Current: 2.45A; Value: 3300uF; PartId: 27564; Supplier 1: Digi-Key; Supplier Part Number 1: 493-1114-ND; ComponentLink1Description: Datasheet; ComponentLink1URL: http://nichicon-us.com/english/products/pdfs/e-uvr.pdf; ComponentLink2Description: Digi-Key Listing; ComponentLink2URL: https://www.digikey.com/product-detail/en/nichicon/UVR1H332MRD6/493-1114-ND/588855; Tolerance: 20%; Voltage: 50V; Price: 2.34; Device Package: Radial, Can, 22mm
footprint CAP AL TH D22 L10 H33
pins: 1, 2

## UVR1H471MHD
designator C?, comment 470uF  (value not drawn)
CAP ALUM 470UF 20% 50V RADIAL; Part Number: UVR1H471MHD; Manufacturer: Nichicon; TemperatureRange: -40C ~ 85C; Type: Polar; Ripple Current: 760mA; Value: 470uF; PartId: 23208; Supplier 1: Digi-Key; Supplier Part Number 1: 493-1110-ND; ComponentLink1Description: Datasheet; ComponentLink1URL: http://nichicon-us.com/english/products/pdfs/e-uvr.pdf; ComponentLink2Description: Digi-Key Listing; ComponentLink2URL: https://www.digikey.com/product-detail/en/nichicon/UVR1H471MHD/493-1110-ND/588851; Tolerance: 20%; Voltage: 50V; Price: 0.61; Device Package: Radial, Can, 12.5mm
footprint CAP AL TH D12.5 L5 H22
pins: 1, 2

## UVR1H471MHD1TO
designator C?, comment 470uF  (value not drawn)
CAP ALUM 470UF 20% 50V RADIAL; Part Number: UVR1H471MHD1TO; Manufacturer: Nichicon; TemperatureRange: -40C ~ 85C; Type: Polar; Ripple Current: 760mA; Value: 470uF; PartId: 23124; Supplier 1: Digi-Key; Supplier Part Number 1: 493-12789-3-ND; ComponentLink1Description: Datasheet; ComponentLink1URL: http://nichicon-us.com/english/products/pdfs/e-uvr.pdf; ComponentLink2Description: Digi-Key Listing; ComponentLink2URL: https://www.digikey.com/product-detail/en/nichicon/UVR1H471MHD1TO/493-12789-3-ND/1978711; Tolerance: 20%; Voltage: 50V; Price: 0.2098; Device Package: Radial, Can, 12.5mm
footprint CAP AL TH D12.5 L5 H22
pins: 1, 2

## UVR1H472MRD6
designator C?, comment 4700uF  (value not drawn)
CAP ALUM 4700UF 20% 50V RADIAL; Part Number: UVR1H472MRD6; Manufacturer: Nichicon; TemperatureRange: -40C ~ 85C; Type: Polar; Ripple Current: 2.9A; Value: 4700uF; PartId: 27471; Supplier 1: Digi-Key; Supplier Part Number 1: 493-1116-ND; ComponentLink1Description: Datasheet; ComponentLink1URL: http://nichicon-us.com/english/products/pdfs/e-uvr.pdf; ComponentLink2Description: Digi-Key Listing; ComponentLink2URL: https://www.digikey.com/product-detail/en/nichicon/UVR1H472MRD6/493-1116-ND/588857; Tolerance: 20%; Voltage: 50V; Price: 3.2; Device Package: Radial, Can, 25mm
footprint CAP AL TH D25 L12.5 H32
pins: 1, 2

## UVR1H682MRD
designator C?, comment 6800uF  (value not drawn)
CAP ALUM 6800UF 20% 50V RADIAL; Part Number: UVR1H682MRD; Manufacturer: Nichicon; TemperatureRange: -40C ~ 85C; Type: Polar; Ripple Current: 3.5A; Value: 6800uF; PartId: 27609; Supplier 1: Digi-Key; Supplier Part Number 1: 493-1117-ND; ComponentLink1Description: Datasheet; ComponentLink1URL: http://nichicon-us.com/english/products/pdfs/e-uvr.pdf; ComponentLink2Description: Digi-Key Listing; ComponentLink2URL: https://www.digikey.com/product-detail/en/nichicon/UVR1H682MRD/493-1117-ND/588858; Tolerance: 20%; Voltage: 50V; Price: 3.42; Device Package: Radial, Can, 22mm
footprint CAP AL TH D22 L10 H53
pins: 1, 2

## UVR1H682MRD6
designator C?, comment 6800uF  (value not drawn)
CAP ALUM 6800UF 20% 50V RADIAL; Part Number: UVR1H682MRD6; Manufacturer: Nichicon; TemperatureRange: -40C ~ 85C; Type: Polar; Ripple Current: 3.3A; Value: 6800uF; PartId: 27484; Supplier 1: Digi-Key; Supplier Part Number 1: 493-1118-ND; ComponentLink1Description: Datasheet; ComponentLink1URL: http://nichicon-us.com/english/products/pdfs/e-uvr.pdf; ComponentLink2Description: Digi-Key Listing; ComponentLink2URL: https://www.digikey.com/product-detail/en/nichicon/UVR1H682MRD6/493-1118-ND/588859; Tolerance: 20%; Voltage: 50V; Price: 3.47; Device Package: Radial, Can, 25mm
footprint CAP AL TH D25 L12.5 H42
pins: 1, 2

## UVR1J102MHD
designator C?, comment 1000uF  (value not drawn)
CAP ALUM 1000UF 20% 63V RADIAL; Part Number: UVR1J102MHD; Manufacturer: Nichicon; TemperatureRange: -40C ~ 85C; Type: Polar; Ripple Current: 1.3A; Value: 1000uF; PartId: 26814; Supplier 1: Digi-Key; Supplier Part Number 1: 493-1129-ND; ComponentLink1Description: Datasheet; ComponentLink1URL: http://nichicon-us.com/english/products/pdfs/e-uvr.pdf; ComponentLink2Description: Digi-Key Listing; ComponentLink2URL: https://www.digikey.com/product-detail/en/nichicon/UVR1J102MHD/493-1129-ND/588870; Tolerance: 20%; Voltage: 63V; Price: 0.96; Device Package: Radial, Can, 16mm
footprint CAP AL TH D16 L7.5 H27
pins: 1, 2

## UVR1J102MHD1TN
designator C?, comment 1000uF  (value not drawn)
CAP ALUM 1000UF 20% 63V RADIAL; Part Number: UVR1J102MHD1TN; Manufacturer: Nichicon; TemperatureRange: -40C ~ 85C; Type: Polar; Ripple Current: 1.3A; Value: 1000uF; PartId: 26743; Supplier 1: Digi-Key; Supplier Part Number 1: 493-12797-3-ND; ComponentLink1Description: Datasheet; ComponentLink1URL: http://nichicon-us.com/english/products/pdfs/e-uvr.pdf; ComponentLink2Description: Digi-Key Listing; ComponentLink2URL: https://www.digikey.com/product-detail/en/nichicon/UVR1J102MHD1TN/493-12797-3-ND/4328996; Tolerance: 20%; Voltage: 63V; Price: 0.5058; Device Package: Radial, Can, 16mm
footprint CAP AL TH D16 L7.5 H27
pins: 1, 2

## UVR1J221MPD
designator C?, comment 220uF  (value not drawn)
CAP ALUM 220UF 20% 63V RADIAL; Part Number: UVR1J221MPD; Manufacturer: Nichicon; TemperatureRange: -40C ~ 85C; Type: Polar; Ripple Current: 490mA; Value: 220uF; PartId: 25180; Supplier 1: Digi-Key; Supplier Part Number 1: 493-1125-ND; ComponentLink1Description: Datasheet; ComponentLink1URL: http://nichicon-us.com/english/products/pdfs/e-uvr.pdf; ComponentLink2Description: Digi-Key Listing; ComponentLink2URL: https://www.digikey.com/product-detail/en/nichicon/UVR1J221MPD/493-1125-ND/588866; Tolerance: 20%; Voltage: 63V; Price: 0.47; Device Package: Radial, Can, 10mm
footprint CAP AL TH D10 L5 H17.5
pins: 1, 2

## UVR1J221MPD1TD
designator C?, comment 220uF  (value not drawn)
CAP ALUM 220UF 20% 63V RADIAL; Part Number: UVR1J221MPD1TD; Manufacturer: Nichicon; TemperatureRange: -40C ~ 85C; Type: Polar; Ripple Current: 490mA; Value: 220uF; PartId: 25018; Supplier 1: Digi-Key; Supplier Part Number 1: 493-12799-3-ND; ComponentLink1Description: Datasheet; ComponentLink1URL: http://nichicon-us.com/english/products/pdfs/e-uvr.pdf; ComponentLink2Description: Digi-Key Listing; ComponentLink2URL: https://www.digikey.com/product-detail/en/nichicon/UVR1J221MPD1TD/493-12799-3-ND/4328998; Tolerance: 20%; Voltage: 63V; Price: 0.1606; Device Package: Radial, Can, 10mm
footprint CAP AL TH D10 L5 H17.5
pins: 1, 2

## UVR1J331MPD
designator C?, comment 330uF  (value not drawn)
CAP ALUM 330UF 20% 63V RADIAL; Part Number: UVR1J331MPD; Manufacturer: Nichicon; TemperatureRange: -40C ~ 85C; Type: Polar; Ripple Current: 710mA; Value: 330uF; PartId: 25846; Supplier 1: Digi-Key; Supplier Part Number 1: 493-1126-ND; ComponentLink1Description: Datasheet; ComponentLink1URL: http://nichicon-us.com/english/products/pdfs/e-uvr.pdf; ComponentLink2Description: Digi-Key Listing; ComponentLink2URL: https://www.digikey.com/product-detail/en/nichicon/UVR1J331MPD/493-1126-ND/588867; Tolerance: 20%; Voltage: 63V; Price: 0.53; Device Package: Radial, Can, 10mm
footprint CAP AL TH D10 L5 H22
pins: 1, 2

## UVR1J332MRD6
designator C?, comment 3300uF  (value not drawn)
CAP ALUM 3300UF 20% 63V RADIAL; Part Number: UVR1J332MRD6; Manufacturer: Nichicon; TemperatureRange: -40C ~ 85C; Type: Polar; Ripple Current: 2.6A; Value: 3300uF; PartId: 27472; Supplier 1: Digi-Key; Supplier Part Number 1: 493-1132-ND; ComponentLink1Description: Datasheet; ComponentLink1URL: http://nichicon-us.com/english/products/pdfs/e-uvr.pdf; ComponentLink2Description: Digi-Key Listing; ComponentLink2URL: https://www.digikey.com/product-detail/en/nichicon/UVR1J332MRD6/493-1132-ND/588873; Tolerance: 20%; Voltage: 63V; Price: 4.24; Device Package: Radial, Can, 25mm
footprint CAP AL TH D25 L12.5 H32
pins: 1, 2

## UVR1J471MHD
designator C?, comment 470uF  (value not drawn)
CAP ALUM 470UF 20% 63V RADIAL; Part Number: UVR1J471MHD; Manufacturer: Nichicon; TemperatureRange: -40C ~ 85C; Type: Polar; Ripple Current: 900mA; Value: 470uF; PartId: 23252; Supplier 1: Digi-Key; Supplier Part Number 1: 493-1127-ND; ComponentLink1Description: Datasheet; ComponentLink1URL: http://nichicon-us.com/english/products/pdfs/e-uvr.pdf; ComponentLink2Description: Digi-Key Listing; ComponentLink2URL: https://www.digikey.com/product-detail/en/nichicon/UVR1J471MHD/493-1127-ND/588868; Tolerance: 20%; Voltage: 63V; Price: 0.71; Device Package: Radial, Can, 12.5mm
footprint CAP AL TH D12.5 L5 H22
pins: 1, 2

## UVR1J471MHD1TD
designator C?, comment 470uF  (value not drawn)
CAP ALUM 470UF 20% 63V RADIAL; Part Number: UVR1J471MHD1TD; Manufacturer: Nichicon; TemperatureRange: -40C ~ 85C; Type: Polar; Ripple Current: 900mA @ 120Hz; Value: 470uF; PartId: 23149; Supplier 1: Digi-Key; Supplier Part Number 1: 493-14351-3-ND; ComponentLink1Description: Datasheet; ComponentLink1URL: http://nichicon-us.com/english/products/pdfs/e-uvr.pdf; ComponentLink2Description: Digi-Key Listing; ComponentLink2URL: https://www.digikey.com/product-detail/en/nichicon/UVR1J471MHD1TD/493-14351-3-ND/5699107; Tolerance: 20%; Voltage: 63V; Price: 0.2933; Device Package: Radial, Can, 12.5mm
footprint CAP AL TH D12.5 L5 H22
pins: 1, 2

## UVR1J471MHD1TO
designator C?, comment 470uF  (value not drawn)
CAP ALUM 470UF 20% 63V RADIAL; Part Number: UVR1J471MHD1TO; Manufacturer: Nichicon; TemperatureRange: -40C ~ 85C; Type: Polar; Ripple Current: 900mA; Value: 470uF; PartId: 23298; Supplier 1: Digi-Key; Supplier Part Number 1: 493-12803-1-ND; ComponentLink1Description: Datasheet; ComponentLink1URL: http://nichicon-us.com/english/products/pdfs/e-uvr.pdf; ComponentLink2Description: Digi-Key Listing; ComponentLink2URL: https://www.digikey.com/product-detail/en/nichicon/UVR1J471MHD1TO/493-12803-1-ND/4328404; Tolerance: 20%; Voltage: 63V; Price: 0.8; Device Package: Radial, Can, 12.5mm
footprint CAP AL TH D12.5 L5 H22
pins: 1, 2

## UVR1J472MRD
designator C?, comment 4700uF  (value not drawn)
CAP ALUM 4700UF 20% 63V RADIAL; Part Number: UVR1J472MRD; Manufacturer: Nichicon; TemperatureRange: -40C ~ 85C; Type: Polar; Ripple Current: 3.4A; Value: 4700uF; PartId: 27608; Supplier 1: Digi-Key; Supplier Part Number 1: 493-1133-ND; ComponentLink1Description: Datasheet; ComponentLink1URL: http://nichicon-us.com/english/products/pdfs/e-uvr.pdf; ComponentLink2Description: Digi-Key Listing; ComponentLink2URL: https://www.digikey.com/product-detail/en/nichicon/UVR1J472MRD/493-1133-ND/588874; Tolerance: 20%; Voltage: 63V; Price: 3.39; Device Package: Radial, Can, 22mm
footprint CAP AL TH D22 L10 H53
pins: 1, 2

## UVR1J472MRD6
designator C?, comment 4700uF  (value not drawn)
CAP ALUM 4700UF 20% 63V RADIAL; Part Number: UVR1J472MRD6; Manufacturer: Nichicon; TemperatureRange: -40C ~ 85C; Type: Polar; Ripple Current: 3.2A; Value: 4700uF; PartId: 27485; Supplier 1: Digi-Key; Supplier Part Number 1: 493-1134-ND; ComponentLink1Description: Datasheet; ComponentLink1URL: http://nichicon-us.com/english/products/pdfs/e-uvr.pdf; ComponentLink2Description: Digi-Key Listing; ComponentLink2URL: https://www.digikey.com/product-detail/en/nichicon/UVR1J472MRD6/493-1134-ND/588875; Tolerance: 20%; Voltage: 63V; Price: 4.61; Device Package: Radial, Can, 25mm
footprint CAP AL TH D25 L12.5 H42
pins: 1, 2

## UVR1J682MRD
designator C?, comment 6800uF  (value not drawn)
CAP ALUM 6800UF 20% 63V RADIAL; Part Number: UVR1J682MRD; Manufacturer: Nichicon; TemperatureRange: -40C ~ 85C; Type: Polar; Ripple Current: 3.9A; Value: 6800uF; PartId: 27510; Supplier 1: Digi-Key; Supplier Part Number 1: 493-1135-ND; ComponentLink1Description: Datasheet; ComponentLink1URL: http://nichicon-us.com/english/products/pdfs/e-uvr.pdf; ComponentLink2Description: Digi-Key Listing; ComponentLink2URL: https://www.digikey.com/product-detail/en/nichicon/UVR1J682MRD/493-1135-ND/588876; Tolerance: 20%; Voltage: 63V; Price: 5.32; Device Package: Radial, Can, 25mm
footprint CAP AL TH D25 L12.5 H52
pins: 1, 2

## UVR1V102MHD
designator C?, comment 1000uF  (value not drawn)
CAP ALUM 1000UF 20% 35V RADIAL; Part Number: UVR1V102MHD; Manufacturer: Nichicon; TemperatureRange: -40C ~ 85C; Type: Polar; Ripple Current: 1.15A; Value: 1000uF; PartId: 23216; Supplier 1: Digi-Key; Supplier Part Number 1: 493-1085-ND; ComponentLink1Description: Datasheet; ComponentLink1URL: http://nichicon-us.com/english/products/pdfs/e-uvr.pdf; ComponentLink2Description: Digi-Key Listing; ComponentLink2URL: https://www.digikey.com/product-detail/en/nichicon/UVR1V102MHD/493-1085-ND/588826; Tolerance: 20%; Voltage: 35V; Price: 0.64; Device Package: Radial, Can, 12.5mm
footprint CAP AL TH D12.5 L5 H22
pins: 1, 2